# EAGLE library part WM14405CT-ND (library washuracing)
1.45H MICRO SD HEADER WITH D/C P 9 (8 + 1) Position Card Connector microSD™ Surface Mount, Right Angle Gold
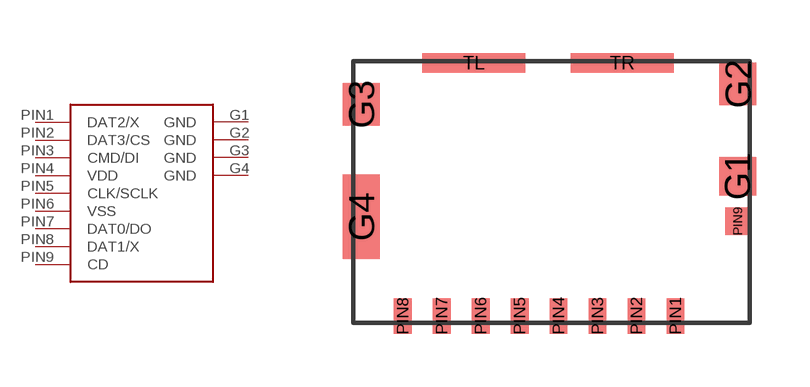
[diagram p2: symbol with the pads of 1051620001-SMD; footprint 1051620001-SMD]

Designator prefix SD

## WM14405CT-ND  [1051620001-SMD]
G1  GND  pwr
G2  GND  pwr
G3  GND  pwr
G4  GND  pwr
PIN1  DAT2/X
PIN2  DAT3/CS
PIN3  CMD/DI
PIN4  VDD  pwr
PIN5  CLK/SCLK
PIN6  VSS  pwr
PIN7  DAT0/DO
PIN8  DAT1/X
PIN9  CD

## Footprint 1051620001-SMD (pad centres in mm)
9 (8 + 1) Position Card Connector microSD™ Surface Mount, Right Angle Gold
smd 1.05 x 1.08: G1 1.76,3.95
smd 1.05 x 1.2: G2 1.76,6.56; G3 -8.875,5.99
smd 1.05 x 2.39: G4 -8.875,2.805
smd 0.5 x 1: PIN1 0,0; PIN2 -1.1,0; PIN3 -2.2,0; PIN4 -3.3,0; PIN5 -4.4,0; PIN6 -5.5,0; PIN7 -6.6,0; PIN8 -7.7,0
smd 0.72 x 0.78: PIN9 1.76,2.68
smd 2.91 x 0.55: TL -5.695,7.16; TR -1.505,7.16